# Altium footprint library Capacitors.PcbLib: 20 footprints (part 1 of 2)
Each footprint in its own frame and in the unit in brackets; x right, y up, seen from the top. Pads: shape width x height; smd on the part's side, far side on the other; paste and mask are expansions set on the pad; w line width, h text height; cw(c..) or ccw(c..) is an arc to the next point about the centre after c.
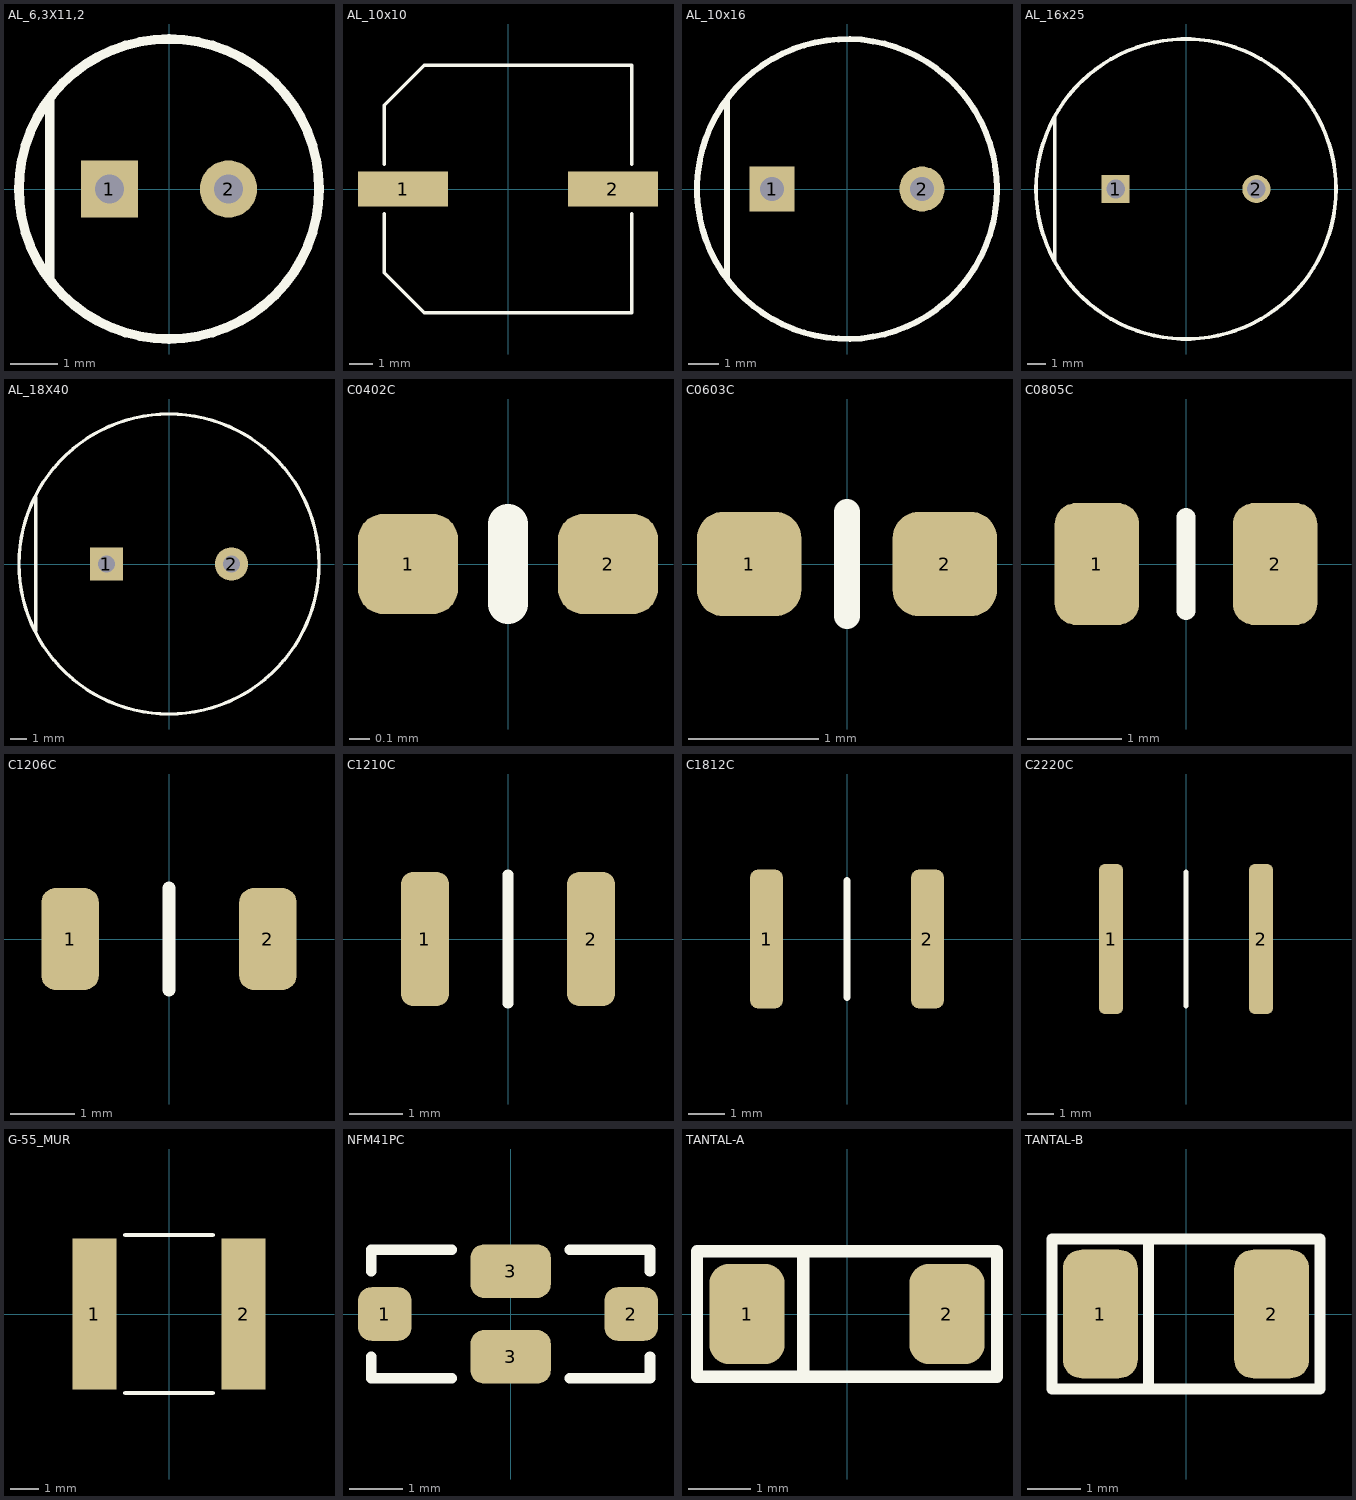
[diagram p0: the footprints below, top view; thin cyan lines are the x and y axes]

## AL_6,3X11,2 [mm]
pads (2):
  rect 1.2x1.2 hole 0.6: 1(-1.25,0)
  round 1.2 hole 0.6: 2(1.25,0)
Top Overlay:
  circle w0.2: c0,0 r3.15
  lines w0.2: -2.5,-1.9 -2.5,1.9
3D body "ECA0JEN101.STEP": height 11.2, standoff -17, extent -3.15,-3.149 3.15,3.149

## AL_10x10 [mil]
pads (2):
  rect 154x59 smd paste+0 mask+0: 1(-179,0) 2(179,0)
Top Overlay:
  lines w6: -211.5,-42.6 -211.5,-142.83 -142.83,-211.5 211.5,-211.5 211.5,-42.6 ; -211.5,42.6 -211.5,142.83 -142.83,211.5 211.5,211.5 211.5,42.6
3D body "CAP_EEFK_G_PAN.step": height 415.12, standoff 0, extent -235.98,-206.49 235.99,206.5

## AL_10x16 [mm]
pads (2):
  rect 1.5x1.5 hole 0.8: 1(-2.5,0)
  round 1.5 hole 0.8: 2(2.5,0)
Top Overlay:
  circle w0.2: c0,0 r5
  lines w0.2: -4,-2.965 -4,-1 -4,1 -4,2.952
3D body "ECA-2VHG4R7B.STEP": height 16, standoff -17, extent -5,-4.999 5,4.999

## AL_16x25 [mm]
pads (2):
  rect 1.5x1.5 hole 1: 1(-3.75,0)
  round 1.5 hole 1: 2(3.75,0)
Top Overlay:
  circle w0.2: c0,0 r8
  lines w0.2: -7,-3.825 -7,-2 -7,2 -7,3.877
3D body "ECA2VHG470B.STEP": height 25, standoff -17, extent -8,-7.997 8,7.996

## AL_18X40 [mm]
pads (2):
  rect 2x2 hole 1: 1(-3.75,0)
  round 2 hole 1: 2(3.75,0)
Top Overlay:
  circle w0.2: c0,0 r9
  lines w0.2: -8,-4 -8,4
3D body "ECA1VHG472.STEP": height 35.5, standoff -17, extent -9,-8.996 9,8.996

## C0402C [mm]
height 0.35
pads (2):
  rrect50% 0.5x0.5 smd: 1(-0.5,0) 2(0.5,0)
Top Overlay:
  lines w0.2: 0,-0.2 0,0.2
3D body "C1005X6S1H153M050BB.STEP": height 0.55, standoff 0, extent -0.5,-0.25 0.5,0.25

## C0603C [mm]
height 0.45
pads (2):
  rrect50% 0.8x0.8 smd: 1(-0.75,0) 2(0.75,0)
Top Overlay:
  lines w0.2: 0,-0.4 0,0.4
3D body "C1608X8R1H223M080AE.STEP": height 0.95, standoff 0, extent -0.8,-0.4 0.8,0.4

## C0805C [mm]
height 0.45
pads (2):
  rrect50% 0.9x1.3 smd: 1(-0.95,0) 2(0.95,0)
Top Overlay:
  lines w0.2: 0,-0.5 0,0.5
3D body "CGA4F2X8R1E154K085AE.STEP": height 1, standoff 0, extent -1,-0.625 1,0.625

## C1206C [mm]
height 0.6
pads (2):
  rrect50% 0.9x1.6 smd: 1(-1.55,0) 2(1.55,0)
Top Overlay:
  lines w0.2: 0,-0.8 0,0.8
3D body "C3216NP02E103J115AA.STEP": height 1.3, standoff 0, extent -1.6,-0.8 1.6,0.8

## C1210C [mm]
height 2.5
pads (2):
  rrect50% 0.9x2.5 smd: 1(-1.55,0) 2(1.55,0)
Top Overlay:
  lines w0.2: 0,-1.2 0,1.2
3D body "CGA6M3X7S2A475K200AB.STEP": height 2.2, standoff 0, extent -1.6,-1.25 1.6,1.25

## C1812C [mm]
height 1.4
pads (2):
  rrect50% 0.9x3.8 smd: 1(-2.2,0) 2(2.2,0)
Top Overlay:
  lines w0.2: 0,-1.6 0,1.6
3D body "C4532C0G3F121K160KA.STEP": height 1.8, standoff 0, extent -2.25,-1.6 2.25,1.6

## C2220C [mm]
pads (2):
  rrect50% 0.9x5.6 smd: 1(-2.8,0) 2(2.8,0)
Top Overlay:
  lines w0.2: 0,-2.5 0,2.5
3D body "CGA9N3X7R2E105K230KE.STEP": height 2.6, standoff 0, extent -2.85,-2.5 2.85,2.5

## G-55_MUR [mil]
pads (2):
  rect 61x209 smd paste+0 mask+0: 1(-103.5,0) 2(103.5,0)
Top Overlay:
  lines w6: -60.89,-109.5 60.89,-109.5 ; -60.89,109.5 60.89,109.5
3D body "G-55_MUR.step": height 252.01, standoff 0, extent -120,-104.49 120,104.49

## NFM41PC [mm]
pads (4):
  rrect50% 1x1 smd: 1(-2.35,0) 2(2.25,0)
  rrect50% 1.5x1 smd mask+0.102: 3(0,-0.8) 3(0,0.8)
Top Overlay:
  lines w0.2: -2.6,-0.8 -2.6,-1.2 -1.1,-1.2 ; -2.6,0.8 -2.6,1.2 -1.1,1.2 ; 1.1,-1.2 2.6,-1.2 2.6,-0.8 ; 1.1,1.2 2.6,1.2 2.6,0.8
3D body "NFM41PC155B1E3L_MUR.step": height 1.19, standoff 0, extent -2.4,-0.952 2.4,0.952

## TANTAL-A [mm]
height 1.6
pads (2):
  rrect50% 1.2x1.6 smd: 1(-1.6,0) 2(1.6,0)
Top Overlay:
  lines w0.2: -0.7,-1 -0.7,1 ; -2.4,-1 -2.4,1 2.4,1 2.4,-1 -2.4,-1
3D body "User Library-AVX_ACASE.STEP": height 1.71, standoff 0, extent -1.7,-0.84 1.7,0.84

## TANTAL-B [mm]
height 1.9
pads (2):
  rrect50% 1.4x2.4 smd: 1(-1.6,0) 2(1.6,0)
Top Overlay:
  lines w0.2: -0.7,-1.4 -0.7,1.3 ; -2.5,-1.4 -2.5,1.4 2.5,1.4 2.5,-1.4 -2.5,-1.4
3D body "User Library-AVX_BCASE.STEP": height 2.03, standoff 0, extent -1.85,-1.465 1.85,1.465